# Altium schematic symbol library AD8253.Schlib: 1 symbol
Pins are listed as number, name and electrical type; pins without a type are passive.

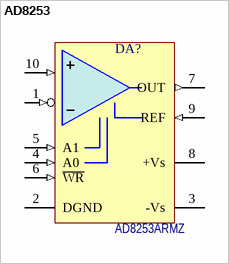
[diagram p0: symbol AD8253]

## AD8253
designator DA?, comment Наименование: AD8253ARMZ  (hidden comment: AD8253ARM)
10 MHz, 20 V/мs, G = 1, 2, 4, 8 iCMOS Programmable Gain Instrumentation Amplifier; Назначение: Инструментальный усилитель с программируемым КУ; Потребление, Вт: 0,040; ComponentLink1Description: DataSheet; ComponentLink1URL: https://www.analog.com/media/en/technical-documentation/data-sheets/AD8253.pdf
footprint MSOP-10 (10-Lead Mini Small Outline Package)
footprint MSOP-10_INV (10-Lead Mini Small Outline Package)
footprint MSOP-10_INV_HO2.8-1B (10-Lead Mini Small Outline Package)
pins: 1 -IN (in), 2 DGND (power), 3 -Vs (power), 4 A0 (in), 5 A1 (in), 6 ~{WR} (in), 7 OUT (out), 8 +Vs (power), 9 REF (in), 10 +IN (in)